# Altium integrated library UX60-MB-5ST.IntLib: 1 symbol
Pins are listed as number, name and electrical type; pins without a type are passive.

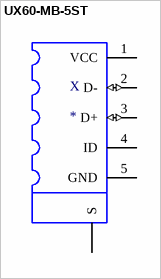
[diagram p0: symbol UX60-MB-5ST]

## UX60-MB-5ST
designator X
USB - mini B USB 2.0 Receptacle Connector 5 Position Surface Mount, Right Angle; MF: Hirose Electric; MP: UX60-MB-5ST; Value: *; Package: None; Price: None; SnapEDA_Link: https://www.snapeda.com/parts/UX60-MB-5ST/Hirose%20Electric%20Co%20Ltd/view-part/46839/?ref=snap; Availability: Unavailable
footprint UX60-MB-5ST
pins: 1 VCC (power), 2 D- (io), 3 D+ (io), 4 ID, 5 GND, M1 S, M2 S, M3 S, M4 S